# Altium footprint library SL-DPT100.PcbLib: 41 footprints (part 1 of 3)
Each footprint in its own frame and in the unit in brackets; x right, y up, seen from the top. Pads: shape width x height; smd on the part's side, far side on the other; paste and mask are expansions set on the pad; w line width, h text height; cw(c..) or ccw(c..) is an arc to the next point about the centre after c.
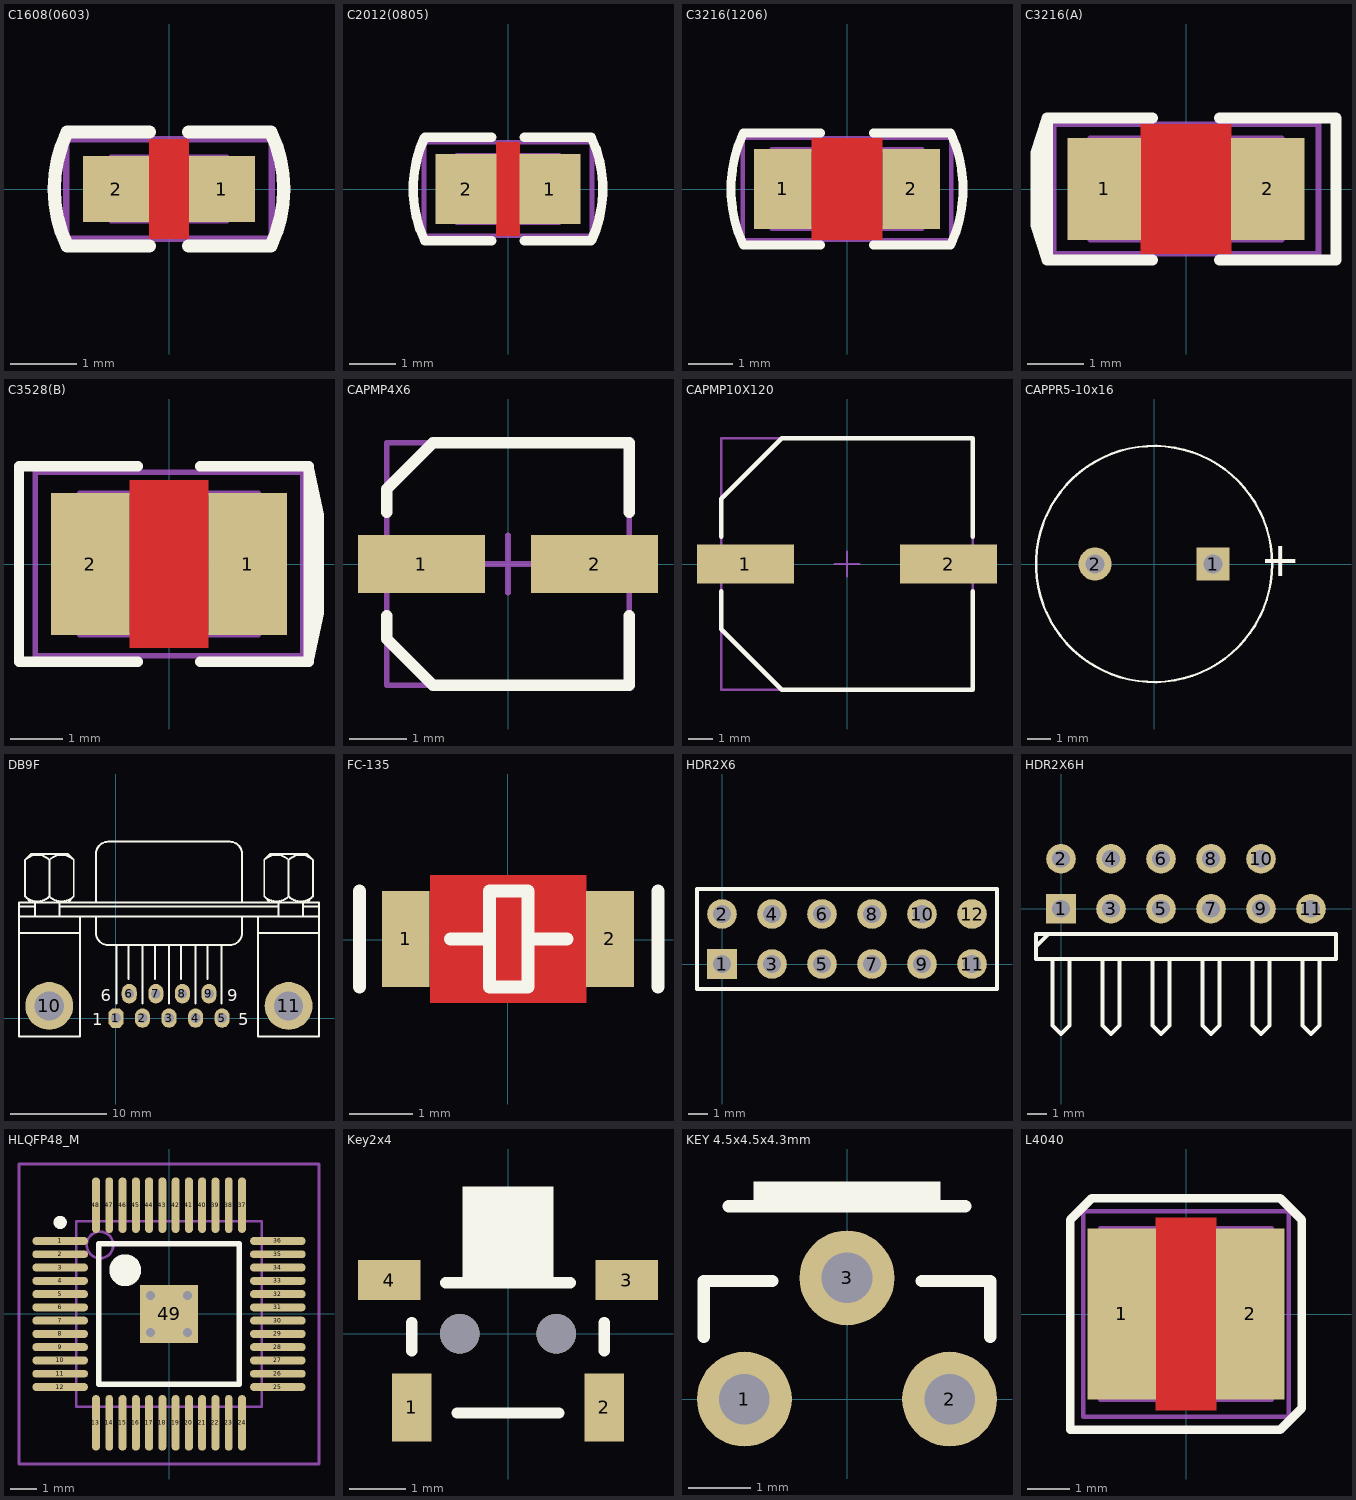
[diagram p0: the footprints below, top view; thin cyan lines are the x and y axes]

## C1608(0603) [mm] "Chip Capacitor, Body 1.6x0.8mm, IPC Medium Density"
height 0.85
pads (2):
  rect 1x1 smd: 1(0.8,0) 2(-0.8,0)
Top Layer:
  pour cut-out: -0.3,0.75 0.3,0.75 0.3,-0.75 -0.3,-0.75
Top Overlay:
  lines w0.2: -1.54,-0.86 -0.3,-0.86 ; -1.541,0.856 ccw(c0.267,0) -1.539,-0.859 ; -1.54,0.86 -0.3,0.86 ; 0.3,-0.86 1.54,-0.86 ; 0.3,0.86 1.54,0.86 ; 1.539,0.859 cw(c-0.267,0) 1.541,-0.856
Mechanical 13:
  lines w0.1: -0.875,-0.475 0.875,-0.475 0.875,0.475 -0.875,0.475 -0.875,-0.475
Mechanical 15:
  lines w0.1: -0.475,0 0.475,0 ; 0,-0.475 0,0.475 ; -1.55,-0.75 1.55,-0.75 1.55,0.75 -1.55,0.75 -1.55,-0.75
3D body: height 0.85, standoff 0, extent -0.875,-0.475 0.875,0.475

## C2012(0805) [mm] "Chip Capacitor, Body 2.0x1.3mm, IPC Medium Density"
height 1.1
pads (2):
  rect 1.3x1.5 smd: 1(0.9,0) 2(-0.9,0)
Top Layer:
  pour cut-out: -0.25,-1 0.25,-1 0.25,1 -0.25,1
Top Overlay:
  lines w0.2: -1.79,1.105 ccw(c0.591,0) -1.788,-1.108 ; -1.78,-1.11 -0.35,-1.11 ; -1.78,1.11 -0.35,1.11 ; 0.35,-1.11 1.78,-1.11 ; 0.35,1.11 1.78,1.11 ; 1.788,1.108 cw(c-0.591,0) 1.79,-1.105
Mechanical 13:
  lines w0.1: -1.1,-0.725 -1.1,0.725 1.1,0.725 1.1,-0.725 -1.1,-0.725
Mechanical 15:
  lines w0.1: -0.5,0 0.5,0 ; 0,-0.5 0,0.5 ; -1.8,-1 -1.8,1 1.8,1 1.8,-1 -1.8,-1
3D body: height 1.1, standoff 0, extent -1.1,-0.725 1.1,0.725

## C3216(1206) [mm] "Chip Capacitor, Body 3.2x1.6mm, IPC Medium Density"
height 1.35
pads (2):
  rect 1.3x1.8 smd: 1(-1.45,0) 2(1.45,0)
Top Layer:
  pour cut-out: -0.8,1.15 0.8,1.15 0.8,-1.15 -0.8,-1.15
Top Overlay:
  lines w0.2: -2.34,1.26 -0.6,1.26 ; -2.34,-1.259 cw(c0.383,0) -2.34,1.259 ; -2.33,-1.26 -0.6,-1.26 ; 0.6,-1.26 2.34,-1.26 ; 0.6,1.26 2.33,1.26 ; 2.34,-1.259 ccw(c-0.383,0) 2.34,1.259
Mechanical 13:
  lines w0.1: -1.7,-0.9 1.7,-0.9 1.7,0.9 -1.7,0.9 -1.7,-0.9
Mechanical 15:
  lines w0.1: -0.5,0 0.5,0 ; 0,-0.5 0,0.5 ; -2.35,-1.15 2.35,-1.15 2.35,1.15 -2.35,1.15 -2.35,-1.15
3D body: height 1.35, standoff 0, extent -1.7,-0.9 1.7,0.9

## C3216(A) [mm] "Chip Capacitor, Body 3.2x1.6mm, IPC Medium Density"
height 1.35
pads (2):
  rect 1.3x1.8 smd: 1(-1.45,0) 2(1.45,0)
Top Layer:
  pour cut-out: -0.8,1.15 0.8,1.15 0.8,-1.15 -0.8,-1.15
Top Overlay:
  lines w0.2: -2.56,-0.8 -2.56,0.8 ; -2.46,-1.2 -2.46,1.2 ; -0.6,-1.26 -2.46,-1.26 -2.66,-0.63 -2.66,0.63 -2.46,1.26 -0.6,1.26 ; 0.6,-1.26 2.66,-1.26 2.66,1.26 0.6,1.26
Mechanical 13:
  lines w0.1: -1.7,-0.9 -1.7,0.9 1.7,0.9 1.7,-0.9 -1.7,-0.9
Mechanical 15:
  lines w0.1: -0.5,0 0.5,0 ; 0,-0.5 0,0.5 ; -2.35,-1.15 -2.35,1.15 2.35,1.15 2.35,-1.15 -2.35,-1.15
3D body: height 1.35, standoff 0, extent -1.7,-0.9 1.7,0.9

## C3528(B) [mm] "Chip Capacitor, Body 3.5x2.8mm, IPC Medium Density"
height 1.35
pads (2):
  rect 1.5x2.7 smd: 1(1.5,0) 2(-1.5,0)
Top Layer:
  pour cut-out: 0.75,-1.6 -0.75,-1.6 -0.75,1.6 0.75,1.6
Top Overlay:
  lines w0.2: -0.6,-1.86 -2.86,-1.86 -2.86,1.86 -0.6,1.86 ; 0.6,-1.86 2.66,-1.86 ; 0.6,1.86 2.66,1.86 ; 2.76,-1.2 2.76,1.2 ; 2.66,-1.86 2.86,-0.93 2.86,0.93 2.66,1.86 ; 2.66,-1.86 2.66,1.86
Mechanical 13:
  lines w0.1: -1.7,-1.35 -1.7,1.35 1.7,1.35 1.7,-1.35 -1.7,-1.35
Mechanical 15:
  lines w0.1: -0.5,0 0.5,0 ; 0,-0.5 0,0.5 ; -2.55,-1.75 -2.55,1.75 2.55,1.75 2.55,-1.75 -2.55,-1.75
3D body: height 1.35, standoff 0, extent -1.7,-1.35 1.7,1.35

## CAPMP4X6 [mm] "Molded Capacitor, 2-Leads, Body 4.3mmx6.1mm, IPC High Density"
height 6.1
pads (2):
  rect 2.2x1 smd: 1(-1.5,0) 2(1.5,0)
Top Overlay:
  lines w0.2: -2.1,-0.9 -2.1,-1.3 -1.3,-2.1 2.1,-2.1 2.1,-0.9 ; -2.1,0.9 -2.1,1.3 -1.3,2.1 2.1,2.1 2.1,0.9
Mechanical 13:
  lines w0.1: -2.1,-1.3 -1.3,-2.1 2.1,-2.1 2.1,2.1 -1.3,2.1 -2.1,1.3 -2.1,-1.3
Mechanical 15:
  lines w0.1: -0.5,0 0.5,0 ; 0,-0.5 0,0.5 ; -2.1,-2.1 2.1,-2.1 2.1,2.1 -2.1,2.1 -2.1,-2.1

## CAPMP10X120 [mm] "Molded Capacitor, 2-Leads, Body 10mmx12mm, IPC High Density"
height 12
pads (2):
  rect 4x1.6 smd: 1(-4.2,0) 2(4.2,0)
Top Overlay:
  lines w0.2: -5.2,-1.125 -5.2,-2.7 -2.7,-5.2 5.2,-5.2 5.2,-1.125 ; -5.2,1.125 -5.2,2.7 -2.7,5.2 5.2,5.2 5.2,1.125
Mechanical 13:
  lines w0.1: -5.2,-2.7 -5.2,2.7 -2.7,5.2 5.2,5.2 5.2,-5.2 -2.7,-5.2 -5.2,-2.7
Mechanical 15:
  lines w0.1: -0.5,0 0.5,0 ; 0,-0.5 0,0.5 ; -5.2,-5.2 -5.2,5.2 5.2,5.2 5.2,-5.2 -5.2,-5.2
3D body: height 12.1, standoff 0.1, extent -4.98,-5 4.98,4.98

## CAPPR5-10x16 [mm] "Capacitor, Electrolytic, Radial; Body 10 x 16 mm (Dia.xH typ); Pin Spacing 5 mm (typ)"
height 10
pads (2):
  rect 1.4x1.4 hole 0.8: 1(2.5,0)
  round 1.4 hole 0.8: 2(-2.5,0)
Top Overlay:
  circle w0.1: c0,0 r5
  text "+" at 6.2,0.75 h1.5

## DB9F [mil]
height 62.99
pads (11):
  oct 62x80 hole 40: 1(0,0)
  oval 62x80 hole 40: 2(109.17,0) 3(218.33,0) 4(327.5,0) 5(436.67,0) 6(55,100) 7(164.17,100) 8(273.33,100) 9(382.5,100)
  round 196.67 hole 120: 10(-274.17,50) 11(710,50)
Top Overlay:
  lines w8: -398.33,350 -148.33,350 ; -398.33,416.67 835,416.67 ; -398.33,458.33 -331.67,458.33 ; -373.42,499.91 ccw(c-323.33,550) -273.25,499.91 ; -373.42,650.09 cw(c-323.33,600) -273.25,650.09 ; -348.33,475 -373.33,500 -373.33,650 -348.33,675 -198.33,675 -173.33,650 -173.33,500 -198.33,475 ; -331.67,416.67 -331.67,475 ; -273.42,499.91 ccw(c-223.33,550) -173.25,499.91 ; -273.42,650.09 cw(c-223.33,600) -173.25,650.09 ; -273.33,500 -273.33,650 ; -231.67,416.67 -231.67,475 ; -231.67,458.33 668.33,458.33 ; -148.33,416.67 -148.33,-75 -398.33,-75 -398.33,475 835,475 835,-75 585,-75 585,416.67 ; -81.67,416.67 -81.67,350 ccw(c-31.67,350) -31.67,300 468.33,300 ccw(c468.33,350) 518.33,350 518.33,416.67 ; -81.67,475 -81.67,675 cw(c-31.67,675) -31.67,725 468.33,725 cw(c468.33,675) 518.33,675 518.33,475 ; 1.67,60.4 1.67,300 ; 51.67,160 51.67,300 ; 110,60.4 110,300 ; 160,160.4 160,300 ; 218.33,60.4 218.33,300 ; 268.33,160 268.33,300 ; 326.67,60.4 326.67,300 ; 376.67,160 376.67,300 ; 435,60.4 435,300 ; 585,350 835,350 ; 609.91,499.91 ccw(c660,550) 710.09,499.91 ; 609.91,650.09 cw(c660,600) 710.09,650.09 ; 635,475 610,500 610,650 635,675 785,675 810,650 810,500 785,475 ; 668.33,416.67 668.33,475 ; 709.91,499.91 ccw(c760,550) 810.09,499.91 ; 709.91,650.09 cw(c760,600) 810.09,650.09 ; 710,500 710,650 ; 768.33,416.67 768.33,475 ; 768.33,458.33 835,458.33
  text "9" at 458.33,70 h50
  text "5" at 503.33,-30 h50
  text "1" at -96.67,-30 h50
  text "6" at -61.67,70 h50

## FC-135 [mm]
height 1.2
pads (2):
  rect 0.75x1.5 smd: 1(-1.6,0.011) 2(1.6,0.011)
Top Layer:
  pour cut-out: -1.22,1.01 -1.22,-0.99 1.23,-0.99 1.23,1.01
Top Overlay:
  lines w0.203: -2.329,-0.739 -2.329,0.761 ; -0.9,0.011 -0.287,0.011 ; 0.413,0.011 0.93,0.011 ; 2.355,-0.739 2.355,0.761 ; -0.287,-0.739 -0.287,0.761 0.313,0.761 0.313,-0.739 -0.287,-0.739

## HDR2X6 [mm] "Connector; Header; 6x2 Position"
height 1.75
pads (12):
  rect 1.5x1.5 hole 0.9: 1(0,0)
  round 1.5 hole 0.9: 2(0,2.54) 3(2.54,0) 4(2.54,2.54) 5(5.08,0) 6(5.08,2.54) 7(7.62,0) 8(7.62,2.54) 9(10.16,0) 10(10.16,2.54) 11(12.7,0)
  round 1.5 smd: 12(12.7,2.54)
Top Overlay:
  lines w0.2: -1.27,-1.27 -1.27,3.81 13.97,3.81 13.97,-1.27 -1.27,-1.27

## HDR2X6H [mm] "Connector; Header; 6x2 Position; Right Angle"
pads (11):
  rect 1.5x1.5 hole 0.9: 1(0,0)
  round 1.5 hole 0.9: 2(0,2.54) 3(2.54,0) 4(2.54,2.54) 5(5.08,0) 6(5.08,2.54) 7(7.62,0) 8(7.62,2.54) 9(10.16,0) 10(10.16,2.54) 11(12.7,0)
Top Overlay:
  lines w0.2: -1.27,-1.905 -0.635,-1.27 ; -0.423,-2.54 -0.423,-5.927 0,-6.35 0.423,-5.927 0.423,-2.54 ; 2.117,-2.54 2.117,-5.927 2.54,-6.35 2.963,-5.927 2.963,-2.54 ; 4.657,-2.54 4.657,-5.927 5.08,-6.35 5.503,-5.927 5.503,-2.54 ; 7.197,-2.54 7.197,-5.927 7.62,-6.35 8.043,-5.927 8.043,-2.54 ; 9.737,-2.54 9.737,-5.927 10.16,-6.35 10.583,-5.927 10.583,-2.54 ; 12.277,-2.54 12.277,-5.927 12.7,-6.35 13.123,-5.927 13.123,-2.54 ; -1.27,-2.54 -1.27,-1.27 13.97,-1.27 13.97,-2.54 -1.27,-2.54

## HLQFP48_M [mm] "48-Pin Thin Quad Flat Pack 0.5 mm Pitch, IPC Low Density"
height 1.6
pads (49):
  oval 2.1x0.3 smd: 1(-4.1,2.75) 2(-4.1,2.25) 3(-4.1,1.75) 4(-4.1,1.25) 5(-4.1,0.75) 6(-4.1,0.25) 7(-4.1,-0.25) 8(-4.1,-0.75) 9(-4.1,-1.25) 10(-4.1,-1.75) 11(-4.1,-2.25) 12(-4.1,-2.75) 25(4.1,-2.75) 26(4.1,-2.25) 27(4.1,-1.75) 28(4.1,-1.25) 29(4.1,-0.75) 30(4.1,-0.25) 31(4.1,0.25) 32(4.1,0.75) 33(4.1,1.25) 34(4.1,1.75) 35(4.1,2.25) 36(4.1,2.75)
  oval 0.3x2.1 smd: 13(-2.75,-4.1) 14(-2.25,-4.1) 15(-1.75,-4.1) 16(-1.25,-4.1) 17(-0.75,-4.1) 18(-0.25,-4.1) 19(0.25,-4.1) 20(0.75,-4.1) 21(1.25,-4.1) 22(1.75,-4.1) 23(2.25,-4.1) 24(2.75,-4.1) 37(2.75,4.1) 38(2.25,4.1) 39(1.75,4.1) 40(1.25,4.1) 41(0.75,4.1) 42(0.25,4.1) 43(-0.25,4.1) 44(-0.75,4.1) 45(-1.25,4.1) 46(-1.75,4.1) 47(-2.25,4.1) 48(-2.75,4.1)
  rect 2.2x2.2 smd: 49(0,0)
via -0.7,0.7 diameter 0.66 hole 0.33
via 0.7,0.7 diameter 0.66 hole 0.33
via 0.7,-0.7 diameter 0.66 hole 0.33
via -0.7,-0.7 diameter 0.66 hole 0.33
Top Overlay:
  circle w0.25: c-4.1,3.45 r0.125
  circle w0.6: c-1.65,1.65 r0.3
  lines w0.2: -2.65,-2.65 -2.65,2.65 2.65,2.65 2.65,-2.65 -2.65,-2.65
Mechanical 13:
  circle w0.1: c-2.6,2.6 r0.5
  lines w0.1: -3.5,-3.5 -3.5,3.5 3.5,3.5 3.5,-3.5 -3.5,-3.5
Mechanical 15:
  lines w0.1: -0.5,0 0.5,0 ; 0,-0.5 0,0.5 ; -5.65,-5.65 -5.65,5.65 5.65,5.65 5.65,-5.65 -5.65,-5.65
3D body: height 1.6, standoff 0, extent -3.5,-3.5 3.5,3.5

## Key2x4 [mm]
height 1.8
pads (4):
  rect 0.7x1.2 smd: 1(-1.7,-1.3) 2(1.7,-1.3)
  rect 1.1x0.7 smd: 3(2.1,0.95) 4(-2.1,0.95)
via 0.85,0 diameter 0.7 hole 0.7
via -0.85,0 diameter 0.7 hole 0.7
Top Overlay:
  rectangle: -0.8,0.9 0.8,2.6
  lines w0.2: -1.7,-0.3 -1.7,0.2 ; -1.1,0.9 1.1,0.9 ; -0.9,-1.4 0.9,-1.4 ; 1.7,-0.3 1.7,0.2

## KEY 4.5x4.5x4.3mm [mil]
pads (3):
  round 60 hole 32: 1(-64.96,0) 2(64.96,0) 3(0,76.77)
Top Overlay:
  rectangle: -59.06,118.11 59.06,137.8
  lines w7.87: -90.55,39.37 -90.55,74.8 -47.24,74.8 ; -74.8,122.05 74.8,122.05 ; 47.24,74.8 90.55,74.8 90.55,39.37

## L4040 [mm] "Chip Inductor, Body 4.0x4.0mm, IPC Medium Density"
height 3
pads (2):
  rect 1.6x4 smd: 1(-1.5,0) 2(1.5,0)
Top Layer:
  pour cut-out: -0.7,2.25 0.7,2.25 0.7,-2.25 -0.7,-2.25
Top Overlay:
  lines w0.2: -2.7,-2.7 -2.7,2.2 -2.2,2.7 2.2,2.7 2.7,2.2 2.7,-2.2 2.2,-2.7 -2.7,-2.7
Mechanical 13:
  lines w0.1: -2,-2 -2,2 2,2 2,-2 -2,-2
Mechanical 15:
  lines w0.1: -0.5,0 0.5,0 ; 0,-0.5 0,0.5 ; -2.4,-2.4 2.4,-2.4 2.4,2.4 -2.4,2.4 -2.4,-2.4
3D body: height 0.71, standoff 0, extent -2,-2 2,2